# Altium schematic symbol library TBP03R2-350-02BE.SchLib: 1 symbol
Pins are listed as number, name and electrical type; pins without a type are passive.

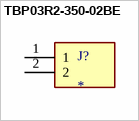
[diagram p0: symbol TBP03R2-350-02BE]

## TBP03R2-350-02BE
designator J?
2~24 Poles, Pluggable, Receptacle, Vertical, 3.50 Pitch, Terminal Block Connector; MF: Same Sky; MP: TBP03R2-350-02BE; SnapEDA_Link: https://www.snapeda.com/parts/TBP03R2-350-02BE/Same+Sky/view-part/?ref=snap; Package: None; Value: *; Check_prices: https://www.snapeda.com/parts/TBP03R2-350-02BE/Same+Sky/view-part/?ref=eda
footprint CUI_TBP03R2-350-02BE
pins: 1, 2